# EAGLE library part ATTINYX14 (library alvie)
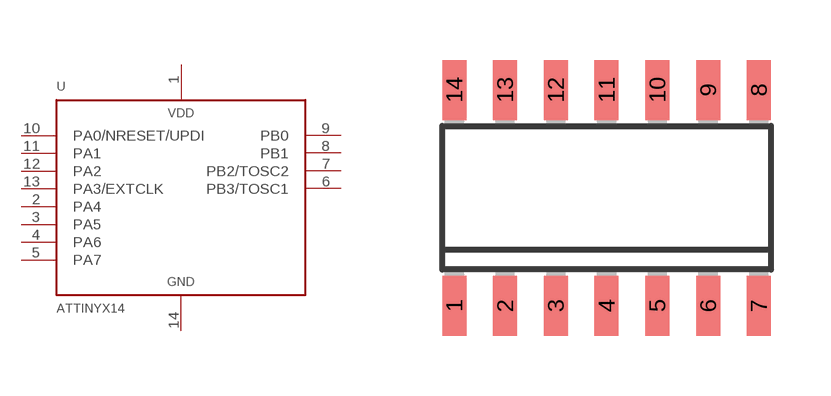
[diagram p11: symbol with the pads of SOIC14; footprint SOIC14]

Designator prefix U

## ATTINYX14  [SOIC14]
1  VDD  pwr
2  PA4
3  PA5
4  PA6
5  PA7
6  PB3/TOSC1
7  PB2/TOSC2
8  PB1
9  PB0
10  PA0/NRESET/UPDI
11  PA1
12  PA2
13  PA3/EXTCLK
14  GND  pwr

## Footprint SOIC14 (pad centres in mm)
smd 0.6 x 1.5: 1 -3.81,-2.7; 2 -2.54,-2.7; 3 -1.27,-2.7; 4 0,-2.7; 5 1.27,-2.7; 6 2.54,-2.7; 7 3.81,-2.7; 8 3.81,2.7; 9 2.54,2.7; 10 1.27,2.7; 11 0,2.7; 12 -1.27,2.7; 13 -2.54,2.7; 14 -3.81,2.7